# EAGLE library part MAX9924 (library max9924_9927)
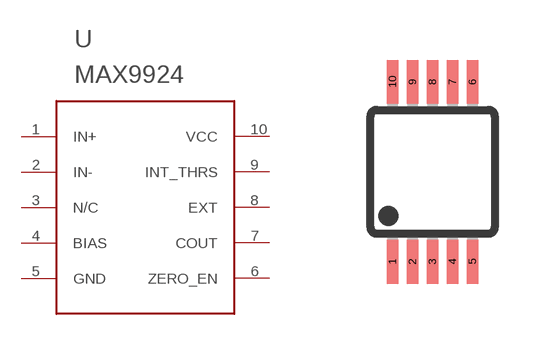
[diagram p0: symbol with the pads of UMAX10; footprint UMAX10]

Designator prefix -

## MAX9924  [UMAX10]
1  IN+
2  IN-
3  N/C
4  BIAS
5  GND
6  ZERO_EN
7  COUT
8  EXT
9  INT_THRS
10  VCC

## Footprint UMAX10 (pad centres in mm)
smd 0.285 x 1.1: 1 -1,-2.25; 2 -0.5,-2.25; 3 0,-2.25; 4 0.5,-2.25; 5 1,-2.25; 6 1,2.25; 7 0.5,2.25; 8 0,2.25; 9 -0.5,2.25; 10 -1,2.25